# Altium schematic symbol library SCH - POWER - SWITCHMODE - TI TPS548A20RVE.SchLib: 1 symbol
Pins are listed as number, name and electrical type; pins without a type are passive.

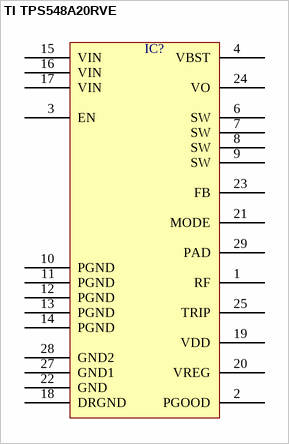
[diagram p0: symbol TI TPS548A20RVE]

## TI TPS548A20RVE
designator IC?  (value not drawn)
pins: 1 RF, 2 PGOOD, 3 EN, 4 VBST, 6 SW, 7 SW, 8 SW, 9 SW, 10 PGND, 11 PGND, 12 PGND, 13 PGND, 14 PGND, 15 VIN, 16 VIN, 17 VIN, 18 DRGND, 19 VDD, 20 VREG, 21 MODE, 22 GND, 23 FB, 24 VO, 25 TRIP, 27 GND1, 28 GND2, 29 PAD